# Altium schematic symbol library CRCW12062M74FKEA.SchLib: 1 symbol
Pins are listed as number, name and electrical type; pins without a type are passive.

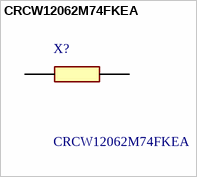
[diagram p0: symbol CRCW12062M74FKEA]

## CRCW12062M74FKEA
designator X?
RESISTOR, 1206 2.74M Ohms +/-1% 0.25W; Manufacturer_Name: Vishay; Geometry.Height: 0.6mm; Mouser Part Number: *; Mouser Price/Stock: *; Manufacturer_Part_Number: CRCW12062M74FKEA; Datasheet Link: *
footprint RESC3216X60N
pins: 1, 2